# EAGLE library part ADP323ACPZ-R7 (library ADP323ACPZ-R7)
Triple, 200 mA, Low Noise, High PSRR Voltage Regulator
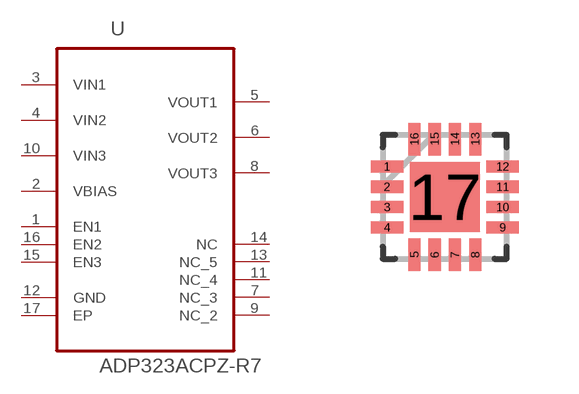
[diagram p0: symbol with the pads of QFN50P300X300X80-17N; footprint QFN50P300X300X80-17N]

Designator prefix U

## ADP323ACPZ-R7 (Description: LDO Regulator Pos 0.5V to 5V 0.2A 16-Pin LFCSP EP T/R; Digi-Key_Part_Number: ADP323ACPZ-R7CT-ND; Digi-Key_Purchase_URL: https://www.digikey.co.th/product-detail/en/analog-devices-inc/ADP323ACPZ-R7/ADP323ACPZ-R7CT-ND/2507303?utm_source=snapeda&utm_medium=aggregator&utm_campaign=symbol; MF: Analog Devices; MP: ADP323ACPZ-R7; Package: LFCSP-16 Analog Devices)  [QFN50P300X300X80-17N]
1  EN1  pas
2  VBIAS  pas
3  VIN1  pas
4  VIN2  pas
5  VOUT1  pas
6  VOUT2  pas
7  NC_3  pas
8  VOUT3  pas
9  NC_2  pas
10  VIN3  pas
11  NC_4  pas
12  GND  pas
13  NC_5  pas
14  NC  pas
15  EN3  pas
16  EN2  pas
17  EP  pas

## Footprint QFN50P300X300X80-17N (pad centres in mm)
smd 0.813 x 0.305: 1 -1.448,0.762; 2 -1.448,0.254; 3 -1.448,-0.254; 4 -1.448,-0.762; 9 1.448,-0.762; 10 1.448,-0.254; 11 1.448,0.254; 12 1.448,0.762
smd 0.305 x 0.813: 5 -0.762,-1.448; 6 -0.254,-1.448; 7 0.254,-1.448; 8 0.762,-1.448; 13 0.762,1.448; 14 0.254,1.448; 15 -0.254,1.448; 16 -0.762,1.448
smd 1.753 x 1.753: 17 0,0